# Altium footprint library PcbLib1.PcbLib: 23 footprints (part 1 of 2)
Each footprint in its own frame and in the unit in brackets; x right, y up, seen from the top. Pads: shape width x height; smd on the part's side, far side on the other; paste and mask are expansions set on the pad; w line width, h text height; cw(c..) or ccw(c..) is an arc to the next point about the centre after c.
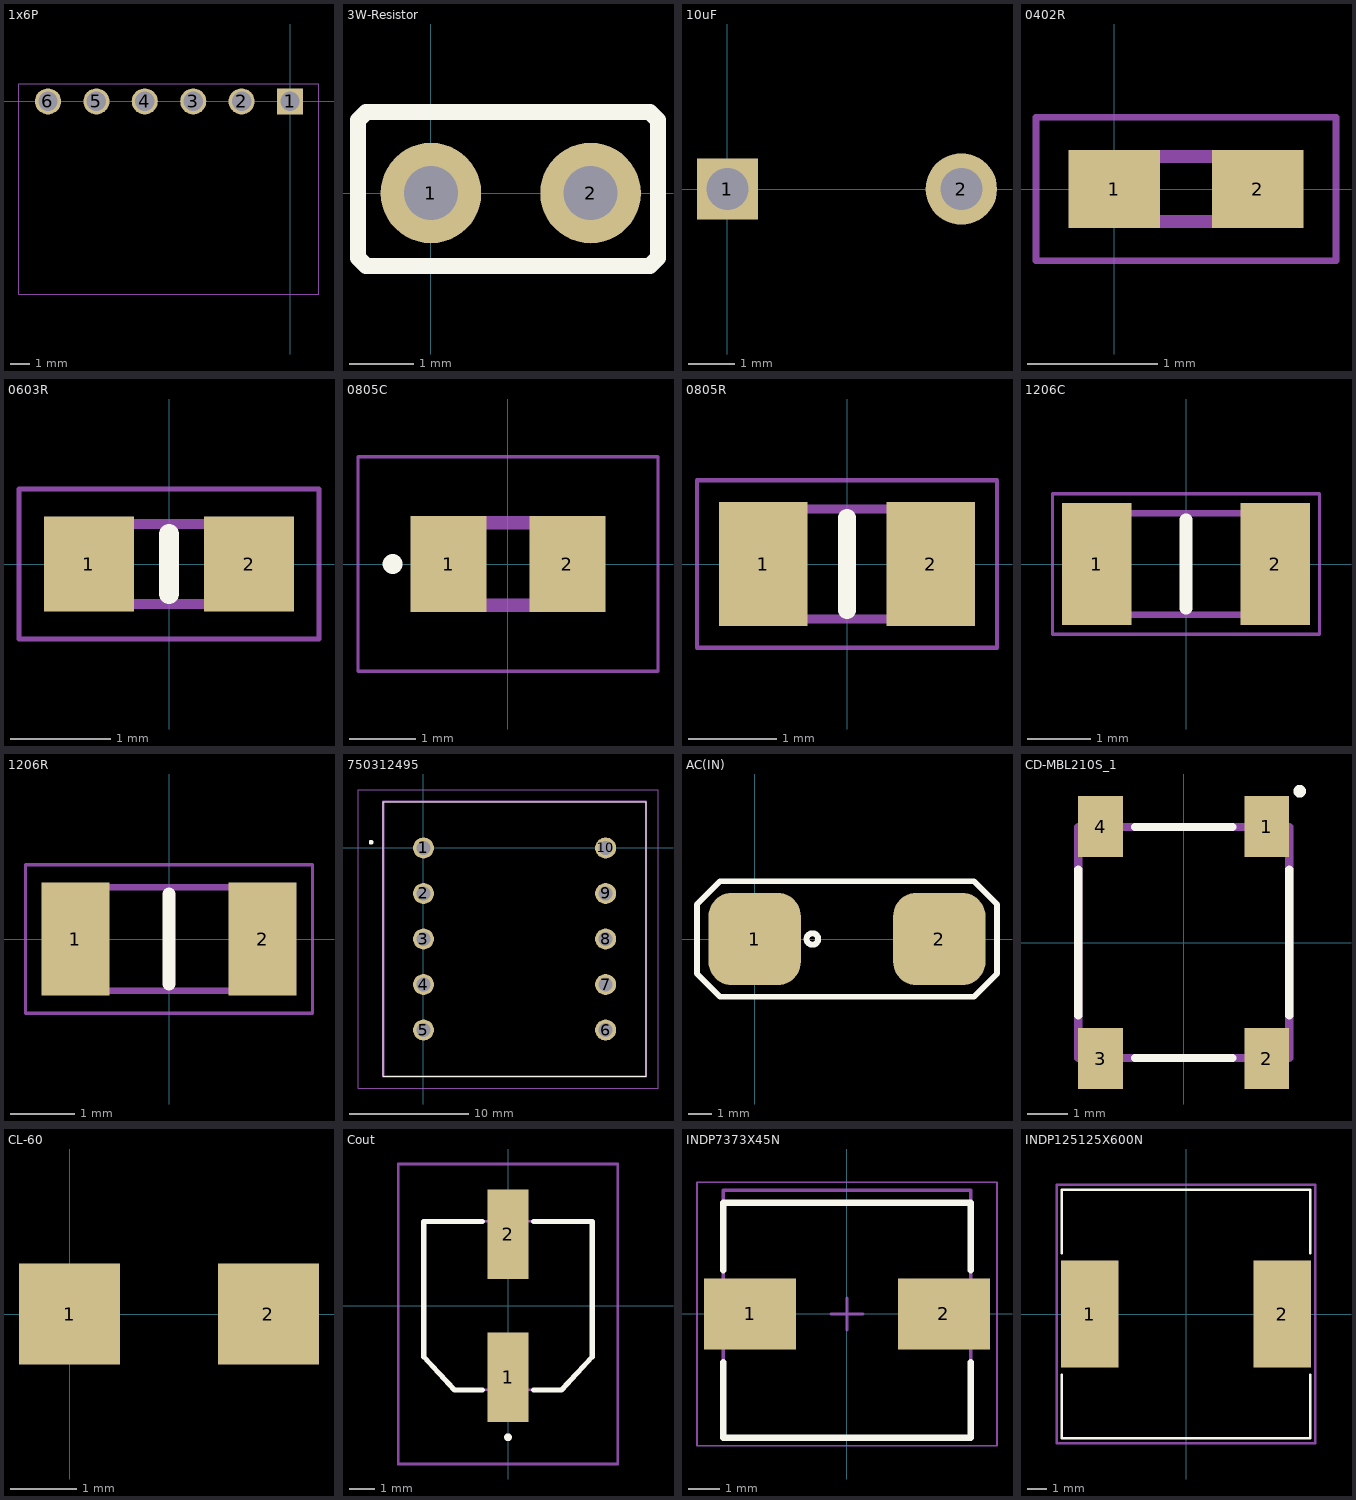
[diagram p0: the footprints below, top view; thin cyan lines are the x and y axes]

## 1x6P [mm]
pads (6):
  rect 1.37x1.37 hole 1.02: 1(0,0)
  round 1.37 hole 1.02: 2(-2.54,0) 3(-5.08,0) 4(-7.62,0) 5(-10.16,0) 6(-12.7,0)
Mechanical 15:
  lines w0.05: -14.22,-10.13 1.52,-10.13 1.52,0.935 -14.22,0.935 -14.22,-10.13
3D body "TSW-106-08-F-S-RA.stp": height 3.03, standoff -2.28, extent -14.111,-9.906 1.129,0.318

## 3W-Resistor [mm]
pads (2):
  round 1.575 hole 0.85: 1(0,0) 2(2.5,0)
Top Overlay:
  lines w0.254: -1.143,-1.016 -1.016,-1.143 3.429,-1.143 3.556,-1.016 3.556,1.143 3.429,1.27 -1.016,1.27 -1.143,1.143 -1.143,-1.016
3D body "Resistor TH vertical 2,54.stp": height 8.18, standoff -2, extent -1.071,-1.15 2.794,1.15

## 10uF [mm]
pads (2):
  rect 1.3x1.3 hole 0.9: 1(0,0)
  round 1.524 hole 0.9: 2(5,0)
3D body "EEU-EB2G220B.stp": height 27, standoff -10, extent -4,-6.5 9,6.5

## 0402R [mm]
pads (2):
  rect 0.7x0.6 smd: 1(0,0) 2(1.1,0)
Mechanical 13:
  lines w0.1: 0.05,-0.25 1.05,-0.25 1.05,0.25 0.05,0.25 0.05,-0.25
Mechanical 15:
  lines w0.05: -0.6,-0.55 1.7,-0.55 1.7,0.55 -0.6,0.55 -0.6,-0.55
3D body "CPF0402B100KE.stp": height 0.35, standoff 0, extent 0.05,-0.25 1.05,0.25

## 0603R [mm]
pads (2):
  rect 0.9x0.95 smd: 1(-0.8,0) 2(0.8,0)
Top Overlay:
  lines w0.2: 0,-0.3 0,0.3
Mechanical 13:
  lines w0.1: -0.8,-0.4 0.8,-0.4 0.8,0.4 -0.8,0.4 -0.8,-0.4
Mechanical 15:
  lines w0.05: -1.5,-0.75 1.5,-0.75 1.5,0.75 -1.5,0.75 -1.5,-0.75
3D body "CR0603-J_-9R1ELF.stp": height 0.55, standoff 0, extent -0.8,-0.4 0.8,0.4

## 0805C [mm]
pads (2):
  rect 1.15x1.45 smd: 1(-0.9,0) 2(0.9,0)
Top Overlay:
  circle w0.2: c-1.75,0 r0.05
Mechanical 13:
  lines w0.2: -1,-0.625 1,-0.625 1,0.625 -1,0.625 -1,-0.625
Mechanical 15:
  lines w0.05: -2.275,-1.625 2.275,-1.625 2.275,1.625 -2.275,1.625 -2.275,-1.625
3D body "C0805C103K1RACTU.stp": height 0.89, standoff 0.01, extent -1.1,-0.762 1.1,0.688

## 0805R [mm]
pads (2):
  rect 1x1.4 smd: 1(-0.95,0) 2(0.95,0)
Top Overlay:
  lines w0.2: 0,-0.525 0,0.525
Mechanical 13:
  lines w0.1: -1,-0.625 -1,0.625 1,0.625 1,-0.625 -1,-0.625
Mechanical 15:
  lines w0.05: -1.7,-0.95 -1.7,0.95 1.7,0.95 1.7,-0.95 -1.7,-0.95
3D body "CR0805-FX-4701ELF.stp": height 0.5, standoff 0, extent -1,-0.625 1,0.625

## 1206C [mm]
pads (2):
  rect 1.1x1.92 smd: 1(-1.41,0) 2(1.41,0)
Top Overlay:
  lines w0.2: 0,-0.7 0,0.7
Mechanical 13:
  lines w0.1: -1.6,-0.8 -1.6,0.8 1.6,0.8 1.6,-0.8 -1.6,-0.8
Mechanical 15:
  lines w0.05: -2.11,-1.11 -2.11,1.11 2.11,1.11 2.11,-1.11 -2.11,-1.11
3D body "12061C105KAT4A.stp": height 2.29, standoff 0, extent -1.6,-0.8 1.6,0.8

## 1206R [mm]
pads (2):
  rect 1.05x1.75 smd: 1(-1.45,0) 2(1.45,0)
Top Overlay:
  lines w0.2: 0,-0.7 0,0.7
Mechanical 13:
  lines w0.1: -1.55,-0.8 -1.55,0.8 1.55,0.8 1.55,-0.8 -1.55,-0.8
Mechanical 15:
  lines w0.05: -2.225,-1.15 -2.225,1.15 2.225,1.15 2.225,-1.15 -2.225,-1.15
3D body "MCMR12X1003FTL.stp": height 0.75, standoff 0, extent -1.55,-0.8 1.55,0.8

## 750312495 [mm]
pads (10):
  round 1.755 hole 1.17: 1(0,0) 2(0,-3.81) 3(0,-7.62) 4(0,-11.43) 5(0,-15.24) 6(15.24,-15.24) 7(15.24,-11.43) 8(15.24,-7.62) 9(15.24,-3.81) 10(15.24,0)
Top Overlay:
  lines w0.1: -3.38,-19.12 18.62,-19.12 18.62,3.88 -3.38,3.88 -3.38,-19.12
  lines w0.2: -4.38,0.38 ccw(c-4.38,0.48) -4.38,0.58 ccw(c-4.38,0.48) -4.38,0.38
Mechanical 13:
  lines w0.2: -3.38,-19.12 18.62,-19.12 18.62,3.88 -3.38,3.88 -3.38,-19.12
Mechanical 15:
  lines w0.1: -5.48,-20.12 19.62,-20.12 19.62,4.88 -5.48,4.88 -5.48,-20.12
3D body "750312495.stp": height 17.63, standoff -5, extent -3.38,-19.12 18.62,3.88

## AC(IN) [mm]
pads (2):
  rrect50% 4x4 smd: 1(0,0) 2(8,0)
Top Overlay:
  circle w0.254: c2.5,0 r0.25
  lines w0.254: -2.5,-1.5 -1.5,-2.5 9.5,-2.5 10.5,-1.5 10.5,1.5 9.5,2.5 0,2.5 -1.5,2.5 -2.5,1.5 -2.5,-1.5

## CD-MBL210S_1 [mm]
pads (4):
  rect 1.1x1.5 smd: 1(2.05,2.86) 2(2.05,-2.86) 3(-2.05,-2.86) 4(-2.05,2.86)
Top Overlay:
  circle w0.2: c2.858,3.73 r0.055
  lines w0.2: -2.6,-1.8 -2.6,1.8 ; -1.2,-2.85 1.2,-2.85 ; -1.2,2.85 1.2,2.85 ; 2.6,-1.8 2.6,1.8
Mechanical 13:
  lines w0.2: -2.6,-2.85 2.6,-2.85 2.6,2.85 -2.6,2.85 -2.6,-2.85
3D body "User Library-CD-MBL206SL.step": height 1.23, standoff 0.01, extent -2.595,-2.918 2.705,2.922

## CL-60 [mil]
pads (2):
  rect 60x60 smd: 1(0,0) 2(118.11,0)

## Cout [mm]
pads (2):
  rect 1.6x3.5 smd: 1(0,-2.8) 2(0,2.8)
Top Overlay:
  lines w0.2: -1,-3.3 -2.1,-3.3 -3.3,-2 -3.3,3.3 -1,3.3 ; 1,-3.3 2.1,-3.3 3.3,-2 3.3,3.3 1,3.3 ; 0,-5.2 ccw(c0,-5.15) 0,-5.1 ; 0,-5.2 cw(c0,-5.15) 0,-5.1 ; 0,-5.2 ccw(c0,-5.15) 0,-5.1
Mechanical 13:
  lines w0.1: -3.3,-2 -3.3,-0.825 -3.3,3.3 3.3,3.3 3.3,-0.825 3.3,-2 2.1,-3.3 0,-3.3 -2.1,-3.3 -3.3,-2
Mechanical 15:
  lines w0.1: -4.3,-6.2 -4.3,5.55 4.3,5.55 4.3,-6.2 -4.3,-6.2
3D body "16SVPG270MX.stp": height 0.4, standoff 0.4, extent 0,0 0,0
3D body "model2.step": height 7.91, standoff 0.01, extent -3.3,-3.65 3.3,3.65

## INDP7373X45N [mm] "Precision Wire Wound Inductor, 2-Leads, Body 7.30x7.30mm, IPC Medium Density"
height 4.5
pads (2):
  rect 2.9x2.25 smd: 1(-3.05,0) 2(3.05,0)
Top Overlay:
  lines w0.2: -3.9,-1.525 -3.9,-3.9 3.9,-3.9 3.9,-1.525 ; -3.9,1.375 -3.9,3.5 -3.163,3.5 -2.688,3.5 -1.7,3.5 1.7,3.5 3.9,3.5 3.9,1.375
Mechanical 13:
  lines w0.1: -3.9,-3.9 -3.9,3.9 3.9,3.9 3.9,-3.9 -3.9,-3.9
Mechanical 15:
  lines w0.05: -4.725,-4.15 -4.725,4.15 4.725,4.15 4.725,-4.15 -4.725,-4.15
  lines w0.1: -0.5,0 0.5,0 ; 0,-0.5 0,0.5
3D body "INDP7373X45N.step": height 4.6, standoff 0, extent -3.75,-3.65 3.75,3.65

## INDP125125X600N [mm]
pads (2):
  rect 2.9x5.4 smd: 1(-4.85,0) 2(4.85,0)
Top Overlay:
  lines w0.127: -6.25,-3.05 -6.25,-6.25 6.25,-6.25 6.25,-3.05 ; -6.25,3.05 -6.25,6.25 6.25,6.25 6.25,3.05
Mechanical 15:
  lines w0.127: -6.5,-6.5 6.5,-6.5 6.5,6.5 -6.5,6.5 -6.5,-6.5
3D body "srr1260-471k.stp": height 6.01, standoff 0.01, extent -6.25,-6.25 6.25,6.25